# EAGLE library part S3A3204V0M (library S3A3204V0M - MRAM)
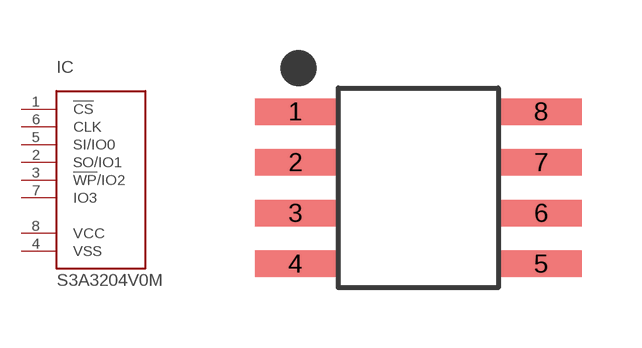
[diagram p0: symbol with the pads of SOIC08; footprint SOIC08]

Designator prefix IC

## S3A3204V0M  [SOIC08]
1  !CS!  in
2  SO/IO1
3  !WP!/IO2
4  VSS  pwr
5  SI/IO0
6  CLK  in
7  IO3
8  VCC  pwr

## Footprint SOIC08 (pad centres in mm)
Small Outline Package
smd 2.032 x 0.66: 1 -3.073,1.905; 2 -3.073,0.635; 3 -3.073,-0.635; 4 -3.073,-1.905; 5 3.073,-1.905; 6 3.073,-0.635; 7 3.073,0.635; 8 3.073,1.905